# EAGLE library part 43045-18_S (library con-molex-micro-fit)
HEADER
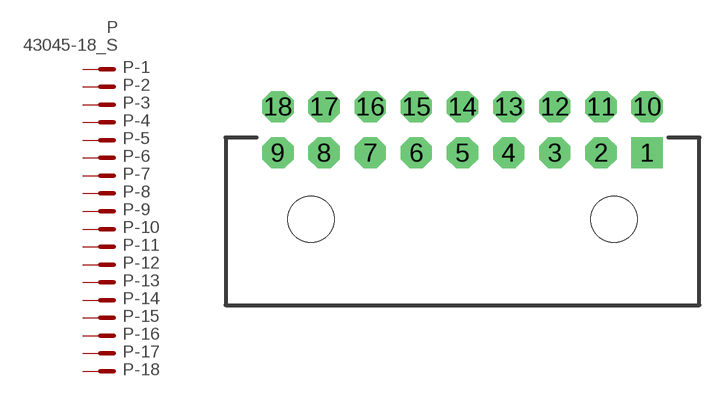
[diagram p16: symbol with the pads of 43045-18; footprint 43045-18]

Designator prefix P; gates -1=P-NV -2=P-N -3=P-N -4=P-N -5=P-N -6=P-N -7=P-N -8=P-N -9=P-N -10=P-N -11=P-N -12=P-N -13=P-N -14=P-N -15=P-N -16=P-N -17=P-N -18=P-N

## 43045-18_S  [43045-18]
1  -1:P  pas
2  -2:P  pas
3  -3:P  pas
4  -4:P  pas
5  -5:P  pas
6  -6:P  pas
7  -7:P  pas
8  -8:P  pas
9  -9:P  pas
10  -10:P  pas
11  -11:P  pas
12  -12:P  pas
13  -13:P  pas
14  -14:P  pas
15  -15:P  pas
16  -16:P  pas
17  -17:P  pas
18  -18:P  pas

## Footprint 43045-18 (pad centres in mm)
HEADER
drill 1.016 pad 2.032 square: 1 12,0
drill 1.016 pad 2.032 octagon: 2 9,0; 3 6,0; 4 3,0; 5 0,0; 6 -3,0; 7 -6,0; 8 -9,0; 9 -12,0; 10 12,3; 11 9,3; 12 6,3; 13 3,3; 14 0,3; 15 -3,3; 16 -6,3; 17 -9,3; 18 -12,3
hole 3 at -9.85,-4.32
hole 3 at 9.85,-4.32